# Altium schematic symbol library temp.SchLib: 21 symbols
Pins are listed as number, name and electrical type; pins without a type are passive.

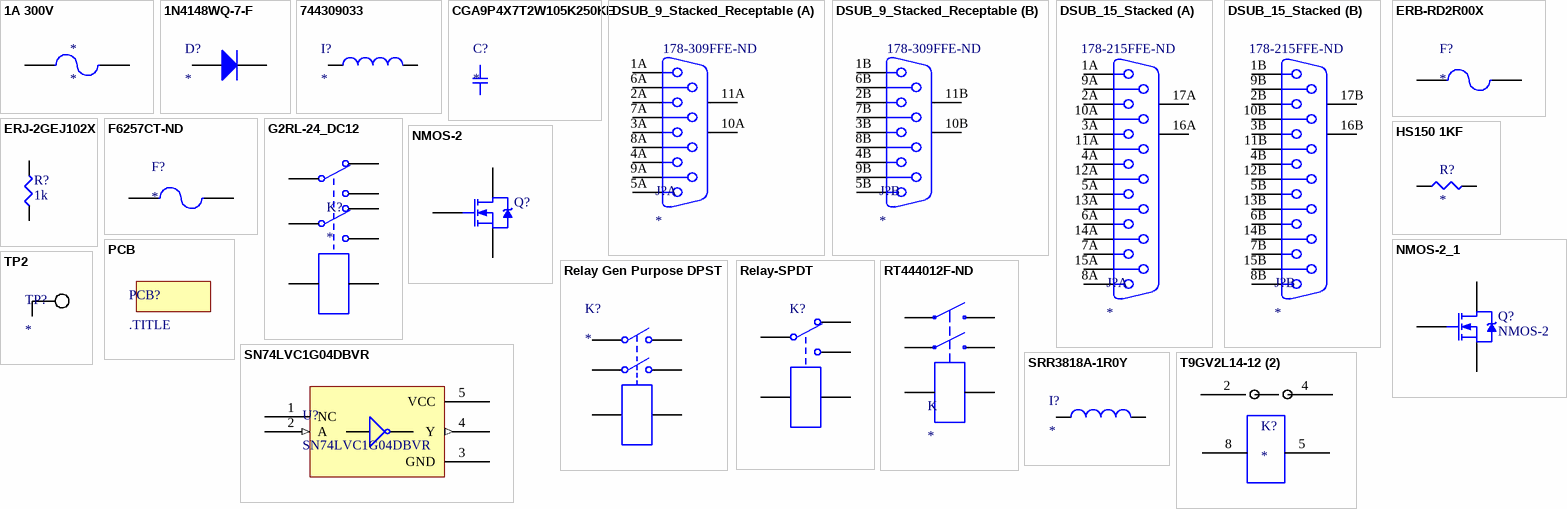
[diagram p0: symbols 1A 300V to TP2]

## 1A 300V
designator *
ComponentLink1Description: Manufacturer Data Sheet; ComponentLink1URL: http://www.littelfuse.com/~/media/electronics/datasheets/fuses/littelfuse_fuse_462_datasheet.pdf.pdf; ComponentLink2Description: Digikey; ComponentLink2URL: https://www.digikey.com/product-detail/en/littelfuse-inc/46211000000/F6007CT-ND/4146345
footprint SMD-1206-RES
pins: 1, 2

## 1N4148WQ-7-F
designator D?
Diodes - General Purpose, Power, Switching SMT Fast Switching Diode; Manufacturer P/N: 1N4148WQ-7-F; Manufacturer: Diodes Inc.; Digikey Link: https://www.digikey.com/product-detail/en/diodes-incorporated/1N4148WQ-7-F/1N4148WQ-7-FDITR-ND/8136126; Digikey P/N: 1N4148WQ-7-FDITR-ND
footprint SODFL370X100-2N (SODFL, 2-Leads, Body 1.55x3.70mm, IPC Medium Density)
pins: 1 A, 2 K

## 744309033
designator I?
FIXED IND 330NH 47.5A 0.165 MOHM; Manufacturer: Wurth; Manufacturer P/N: 744309033; Digikey Link: https://www.digikey.com/product-detail/en/wurth-electronics-inc/744309033/732-3006-1-ND/2626130; Digikey P/N: 732-3006-1-ND
footprint INDM140130X90N (Molded Inductor, 2-Leads, Body 14.00x13.00mm, IPC Medium Density)
pins: 1, 2

## CGA9P4X7T2W105K250KE
designator C?
CAP CER 1UF 450V X7T 2220; Manufacturer: TDK; Manufacturer P/N: CGA9P4X7T2W105K250KE; Digikey Link: https://www.digikey.com/product-detail/en/tdk-corporation/CGA9P4X7T2W105K250KE/445-8765-1-ND/3248632; Digikey P/N: 445-8765-1-ND
footprint CAPC8350X15N (Chip Capacitor, 2-Leads, Body 8.30x5.00mm, IPC Medium Density)
pins: 1, 2

## DSUB_9_Stacked_Receptable
designator J?  Supplier Part Number 1: 178-309FFE-ND
CONN D-SUB RCPT 9POS R/A SLDR; Manufacturer: NorComp; Manufacturer Part Number: 178-009-513R691; Description: 9, 9 Position D-Sub - Stacked Receptacle, Female Sockets Connector, Board Edge, Through Hole, Right Angle Solder; Plating: Nickel; Gender: Female to Female; Current Rating: 5A; Connector Type: D-Sub,Receptacle,Signal; Number of Contacts: 9; Number of Ports: 2; Supplier 1: Digi-Key; RoHS: Yes; Stock 1: 1545; Pricing 1: 1 = 7.32000, 10 = 7.01500, 45 = 6.40511, 90 = 6.10000, 135 = 5.79504, 270 = 5.18500, 540 = 4.88000, 1035 = 4.27000 (USD); Mount: Edge,Through Hole; Contact Material: Brass; Contact Plating: Gold; Color: Black; Shell Material: Steel; Housing Material: Nylon; Min Operating Temperature: -55°C; Max Operating Temperature: 105°C; Package Quantity: 45; Packaging: Tray; Termination: Solder; Features: Shielded; Lead Free: Lead Free; ComponentLink1URL: http://www.norcomp.net/rohspdfs/Connectors/17Y/178/513/178-YYY-513R691.pdf; ComponentLink1Description: http://www.norcomp.net/rohspdfs/Connectors/17Y/178/513/178-YYY-513R691.pdf
footprint DSUB_9_Stacked; pin to pad 1>10 1A>1 1B>10 2>11 2A>2 2B>11 3>12 3A>3 3B>12 4>13 4A>4 4B>13 5>14 5A>5 5B>14 6>15 6A>6 6B>15 7>16 7A>7 7B>16 8>17 8A>8 8B>17 9>18 9A>9 9B>18 10>22 10A>20 10B>22 11>21 11A>19 11B>21
part A pins: 1A 1, 2A 2, 3A 3, 4A 4, 5A 5, 6A 6, 7A 7, 8A 8, 9A 9, 10A MH1, 11A MH2
part B pins: 1B 1, 2B 2, 3B 3, 4B 4, 5B 5, 6B 6, 7B 7, 8B 8, 9B 9, 10B MH1, 11B MH2

## DSUB_15_Stacked
designator J?  Supplier Part Number 1: 178-215FFE-ND
CONN D-SUB RCPT 15POS R/A SLDR /; Manufacturer: NorComp; Manufacturer Part Number: 178-015-513R491; Description: 15, 15 Position D-Sub - Stacked Receptacle, Female Sockets Connector, Board Edge, Through Hole, Right Angle Solder; Body Material: Steel; Current Rating: 5A; Connector Type: D-Sub,Receptacle,Signal; Number of Contacts: 30; Gender: Female; Supplier 1: Digi-Key; RoHS: Yes; Stock 1: 2348; Pricing 1: 1 = 8.81000, 10 = 8.42600, 35 = 7.66000, 70 = 7.27700, 105 = 7.08552, 280 = 6.31950, 525 = 5.93650, 1015 = 5.24710 (USD); Mount: Edge,Through Hole; Color: Black; Contact Plating: Gold; Contact Material: Brass; Housing Material: Nylon; Min Operating Temperature: -55°C; Max Operating Temperature: 105°C; Package Quantity: 35; Packaging: Tray; Termination: Solder; Features: Shielded; REACH SVHC: No SVHC; Lead Free: Lead Free; ComponentLink1URL: https://www.norcomp.net/rohspdfs/Connectors/17Y/178/513/178-YYY-513R491.pdf; ComponentLink1Description: https://www.norcomp.net/rohspdfs/Connectors/17Y/178/513/178-YYY-513R491.pdf; ComponentLink2URL: http://www.norcomp.net/rohspdfs/Connectors/17Y/178/513/178-YYY-513R491.pdf; ComponentLink2Description: http://www.norcomp.net/rohspdfs/Connectors/17Y/178/513/178-YYY-513R491.pdf
footprint DSUB_15_Stacked; pin to pad 1>16 1A>1 1B>16 2>17 2A>2 2B>17 3>18 3A>3 3B>18 4>19 4A>4 4B>19 5>20 5A>5 5B>20 6>21 6A>6 6B>21 7>22 7A>7 7B>22 8>23 8A>8 8B>23 9>24 9A>9 9B>24 10>25 10A>10 10B>25 11>26 11A>11 11B>26 12>27 12A>12 12B>27 13>28 13A>13 13B>28 14>29 14A>14 14B>29 15>30 15A>15 15B>30 16>31 16A>32 16B>34 17>32 17A>31 17B>33
part A pins: 1A 1, 2A 2, 3A 3, 4A 4, 5A 5, 6A 6, 7A 7, 8A 8, 9A 9, 10A 10, 11A 11, 12A 12, 13A 13, 14A 14, 15A 15, 16A MH1, 17A MH2
part B pins: 1B 1, 2B 2, 3B 3, 4B 4, 5B 5, 6B 6, 7B 7, 8B 8, 9B 9, 10B 10, 11B 11, 12B 12, 13B 13, 14B 14, 15B 15, 16B MH1, 17B MH2

## ERB-RD2R00X
designator F?
FUSE BOARD MOUNT 2A 32VDC 0402; Manufacturer: Panasonic; Manufacturer P/N: ERB-RD2R00X; Digikey P/N: P15123TR-ND; Digikey Link: https://www.digikey.com/product-detail/en/panasonic-electronic-components/ERB-RD2R00X/P15123TR-ND/2796785
footprint SMD-0402-RES
pins: 1, 2

## ERJ-2GEJ102X
designator R?, comment 1k
RES SMD 1K OHM 5% 1/10W 0402; Part Number: ERJ-2GEJ102X; Manufacturer: Panasonic Electronic Components; Factory Stock: 0; Unit Price (USD): 0.00350; @ qty: 1500; Minimum Quantity: 1; Power (Watts): 0.1W, 1/10W; Temperature Coefficient: ±200ppm/°C; Datasheets: http://industrial.panasonic.com/www-cgi/jvcr13pz.cgi?E+PZ+3+AOA0001+ERJ2GEJ102X+7+WW; Image: //media.digikey.com/Photos/Panasonic%20Photos/ERJ-PA2-Series.jpg; Digi-Key Part Number: P1.0KJCT-ND; Quantity Available: 1939857; Packaging: Cut Tape (CT); Series: ERJ; Part Status: Active; Value: 1k; Tolerance: ±5%; Composition: Thick Film; Features: Automotive AEC-Q200; Operating Temperature: -55°C ~ 155°C; Package / Case: 0402 (1005 Metric); Supplier Device Package: 0402; Size / Dimension: 0.039" L x 0.020" W (1.00mm x 0.50mm); Height - Seated (Max): 0.016" (0.40mm); Number of Terminations: 2; Failure Rate: -; Digikey P/N: ERJ-2GEJ102X
footprint SMD-0402-RES
pins: 1, 2

## F6257CT-ND
designator F?
FUSE BOARD MNT 500MA 350VAC/VDC; Manufacturer: Littelfuse; Manufacturer P/N: 46205000000; Digikey P/N: F6257CT-ND; Digikey Link: https://www.digikey.com/product-detail/en/littelfuse-inc/46205000000/F6257CT-ND/4331764
footprint SMD-0805-RES
pins: 1, 2

## G2RL-24_DC12
designator K?
RELAY GEN PURPOSE DPDT 8A 12V; Manufacturer: Omron Electronics; Manufacturer P/N: G2RL-24 DC12; Digikey Link: https://www.digikey.com/product-detail/en/omron-electronics-inc-emc-div/G2RL-24-DC12/Z147-ND/307667; Digikey P/N: Z147-ND
footprint G2RL
pins: 1, 2, 3, 4, 5, 6, 7, 8

## HS150 1KF
designator R?
1K Power Resistor; Manufacturer: Ohmite; Manufacturer P/N: HS150 1KF; Digikey Link: https://www.digikey.com/product-detail/en/ohmite/HS150-1KF/HS1501KF-ND/5306251; Digikey P/N: HS1501KF-ND
footprint HS150 1KF (1k Power Resistor)
footprint HS150 1KF (1k Power Resistor)
pins: 1, 2

## NMOS-2
designator Q?
N-Channel Power MOSFET; ComponentLink1Description: Manufacturer Link; ComponentLink1URL: http://www.irf.com/; Parameter 1: *; Parameter 2: *; Parameter 3: *; Parameter 4: *
footprint TO-220AB (TO, Thru-Hole, Vertical, Heatsink Mounted; 3 In-Line Leads; Pitch 2.54 mm)
simulation model IRF1010 (Spice Subcircuit)
pins: 1 G, 2 D, 3 S

## NMOS-2_1
designator Q?, comment NMOS-2
N-Channel Power MOSFET; ComponentLink1Description: Manufacturer Link; ComponentLink1URL: http://www.irf.com/; Parameter 1: *; Parameter 2: *; Parameter 3: *; Parameter 4: *
footprint TO-220AB (TO, Thru-Hole, Vertical, Heatsink Mounted; 3 In-Line Leads; Pitch 2.54 mm)
simulation model IRF1010 (Spice Subcircuit)
pins: 1 G, 2 D, 3 S

## PCB
designator PCB?, comment .TITLE
footprint PCB

## Relay Gen Purpose DPST
designator K?
RELAY GEN PURPOSE DPST 8A 12V; Manufacturer: TE Connectivity Potter & Brumfield Relays; Manufacturer P/N: RT444012F; Digikey Link: https://www.digikey.com/product-detail/en/te-connectivity-potter-brumfield-relays/RT444012F/RT444012F-ND/1427665; Digikey P/N: RT444012F-ND
footprint RT444012F (RELAY GEN PURPOSE DPST 8A 12V)
pins: 1, 2, 3, 4, 5, 6

## Relay-SPDT
designator K?
Single-Pole Dual-Throw Relay; Published: 24-Mar-1999; LatestRevisionDate: 17-Jul-2002; LatestRevisionNote: Re-released for DXP Platform.; PackageReference: MODULE5B; Publisher: Altium Limited
footprint MODULE5B (DIP; 5 Round Pins; Row Space 15.24 mm; Pitch 2.54 mm)
simulation model SPDTRELAY (Spice Subcircuit)
pins: 1, 2, 3, 4, 5

## RT444012F-ND
designator K
RELAY GEN PURPOSE DPST 8A 12V; ComponentLink1Description: Digikey; ComponentLink1URL: https://www.digikey.com/product-detail/en/te-connectivity-potter-brumfield-relays/RT444012F/RT444012F-ND/1427665
footprint RT444012F (RELAY GEN PURPOSE DPST 8A 12V)
pins: 1, 2, 3, 4, 5, 6

## SN74LVC1G04DBVR
designator U?
Manufacturer: TI; Digikey Link: https://www.digikey.com/product-detail/en/texas-instruments/SN74LVC1G04DBVR/296-11599-1-ND/385738; Manufacturer P/N: SN74LVC1G04DBVR; Digikey P/N: 296-11599-1-ND
footprint DBV5-L
pins: 1 NC, 2 A (in), 3 GND (power), 4 Y (out), 5 VCC (power)

## SRR3818A-1R0Y
designator I?
FIXED IND 1UH 3.6A 37 MOHM SMD; Manufacturer: Bourns Inc.; Manufacturer P/N: SRR3818A-1R0Y; Digikey Link: https://www.digikey.com/product-detail/en/bourns-inc/SRR3818A-1R0Y/SRR3818A-1R0YCT-ND/7556036; Digikey P/N: SRR3818A-1R0YCT-ND
footprint INDM3838X18N (Molded Inductor, 2-Leads, Body 3.80x3.80mm, IPC Medium Density)
pins: 1, 2

## T9GV2L14-12 (2)
designator K?
Manufacturer P/N: T9GV2L14-12; Manufacturer: TE Connectivity Potter & Brumfield Relays; Digikey P/N: PB2373-ND; Digikey Link: https://www.digikey.com/product-detail/en/te-connectivity-potter-brumfield-relays/T9GV2L14-12/PB2373-ND/8345133
footprint T9GV2L14-12
pins: 2, 4, 5 -/GND, 8 +

## TP2
designator TP?
Test Point
footprint Test Point (SMD Test Point)
pins: 1